# Altium footprint library 431603102.PcbLib: 1 footprints
Each footprint in its own frame and in the unit in brackets; x right, y up, seen from the top. Pads: shape width x height; smd on the part's side, far side on the other; paste and mask are expansions set on the pad; w line width, h text height; cw(c..) or ccw(c..) is an arc to the next point about the centre after c.
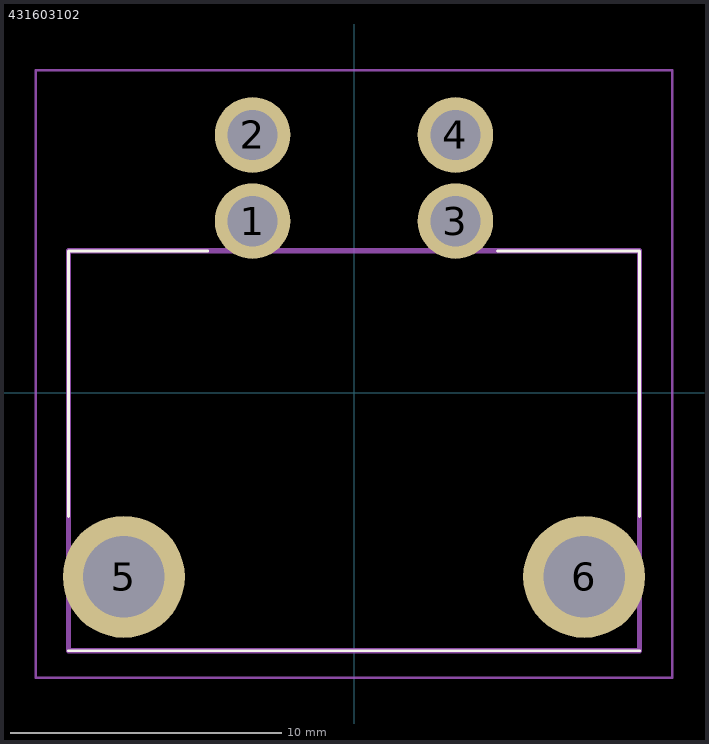
[diagram p0: the footprint, top view; thin cyan lines are the x and y axes]

## 431603102 [mm]
pads (6):
  round 2.79 hole 1.86: 1(-3.745,6.34) 2(-3.745,9.52) 3(3.745,6.34) 4(3.745,9.52)
  round 4.5 hole 3: 5(-8.495,-6.79) 6(8.495,-6.79)
L26-Silk Screen Top (Multiple PADS layers...):
  lines w0.1: -10.54,-9.52 10.54,-9.52 ; -10.54,-4.56 -10.54,5.24 -5.4,5.24 ; 5.3,5.24 10.54,5.24 10.54,-4.56
L15 (Multiple PADS layers...):
  lines w0.2: -10.54,-9.52 -10.54,5.24 10.54,5.24 10.54,-9.52 -10.54,-9.52
L20:
  lines w0.1: -11.745,-10.52 -11.745,11.915 11.745,11.915 11.745,-10.52 -11.745,-10.52
3D body "431603102.stp": height 13.97, standoff -3.23, extent -10.668,-9.766 10.414,10.02